# Altium footprint library Trans_Mini-Circuits_TC1-1-13M+_eec_MFG.PcbLib: 1 footprints
Each footprint in its own frame and in the unit in brackets; x right, y up, seen from the top. Pads: shape width x height; smd on the part's side, far side on the other; paste and mask are expansions set on the pad; w line width, h text height; cw(c..) or ccw(c..) is an arc to the next point about the centre after c.
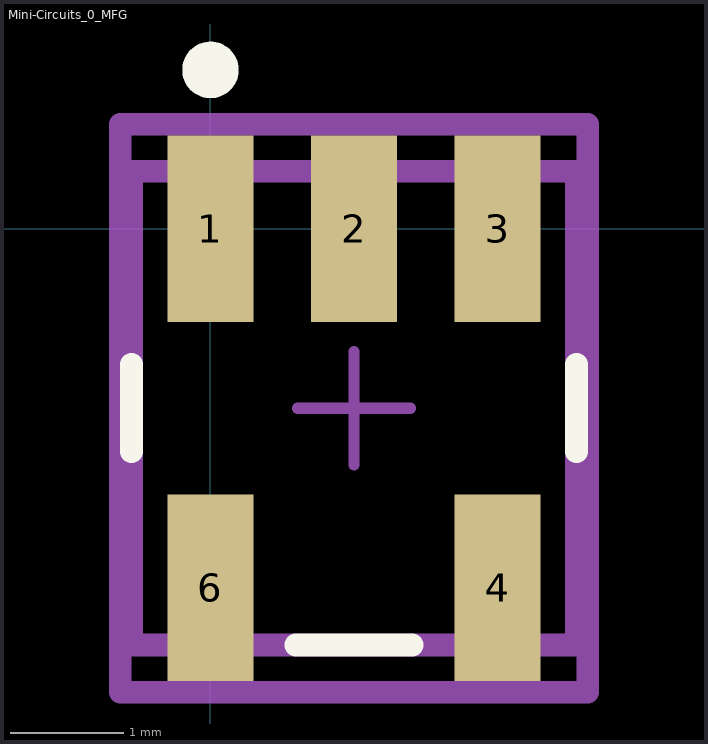
[diagram p0: the footprint, top view; thin cyan lines are the x and y axes]

## Mini-Circuits_0_MFG [mil]
pads (5):
  rect 30x65 smd paste+0 mask+0: 1(0,0) 2(50,0) 3(100,0) 4(100,-125) 6(0,-125)
Top Overlay:
  circle w9.84: c0,55.31 r4.92
  lines w7.87: -27.5,-77.74 -27.5,-47.26 ; 29.76,-145 70.24,-145 ; 127.5,-77.74 127.5,-47.26
Mechanical 10:
  lines w7.87: -31.44,-161.44 131.44,-161.44 131.44,36.44 -31.44,36.44 -31.44,-161.44
Mechanical 12:
  lines w7.87: -27.5,-145 127.5,-145 127.5,20 -27.5,20 -27.5,-145
Mechanical 15:
  lines w3.94: 30.32,-62.5 69.69,-62.5 ; 50,-82.19 50,-42.81
  lines w7.87: -31.44,-161.44 131.44,-161.44 131.44,36.44 -31.44,36.44 -31.44,-161.44
3D body: height 10, standoff 0, extent -31.44,-161.44 131.44,36.44